# Altium footprint library Capacitor_THT.PcbLib: 378 footprints (part 14 of 24)
Each footprint in its own frame and in the unit in brackets; x right, y up, seen from the top. Pads: shape width x height; smd on the part's side, far side on the other; paste and mask are expansions set on the pad; w line width, h text height; cw(c..) or ccw(c..) is an arc to the next point about the centre after c.
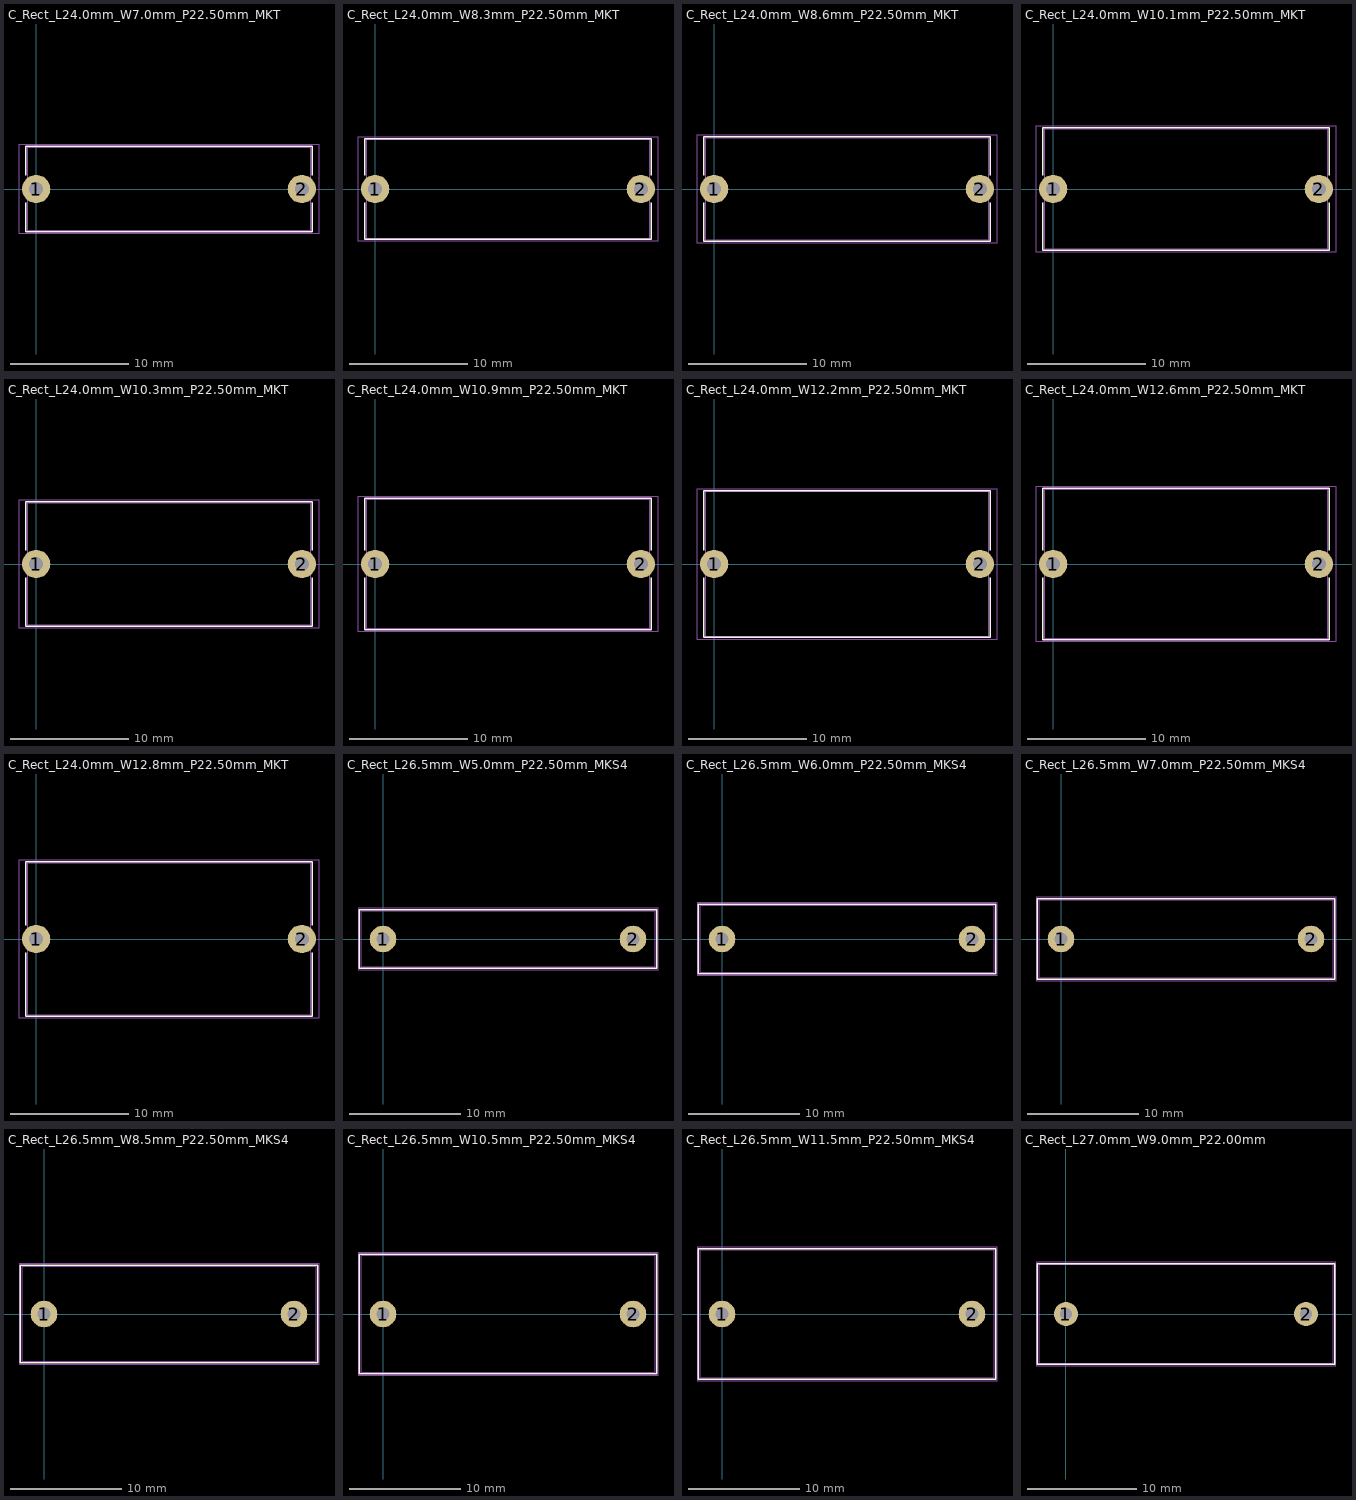
[diagram p13: the footprints below, top view; thin cyan lines are the x and y axes]

## C_Rect_L24.0mm_W7.0mm_P22.50mm_MKT [mm]
pads (2):
  round 2.4 hole 1.2: 1(0,0) 2(22.5,0)
F.SilkS:
  lines w0.12: -0.87,-1.185 -0.87,-3.62 23.37,-3.62 23.37,-1.185 ; -0.87,1.185 -0.87,3.62 23.37,3.62 23.37,1.185
F.CrtYd:
  lines w0.05: -1.45,-3.75 -1.45,3.75 23.95,3.75 23.95,-3.75 -1.45,-3.75
F.Fab:
  lines w0.1: -0.75,-3.5 23.25,-3.5 23.25,3.5 -0.75,3.5 -0.75,-3.5
  text "'.Designator'" at 7.203,-0.84 h1

## C_Rect_L24.0mm_W8.3mm_P22.50mm_MKT [mm]
pads (2):
  round 2.4 hole 1.2: 1(0,0) 2(22.5,0)
F.SilkS:
  lines w0.12: -0.87,-1.185 -0.87,-4.27 23.37,-4.27 23.37,-1.185 ; -0.87,1.185 -0.87,4.27 23.37,4.27 23.37,1.185
F.CrtYd:
  lines w0.05: -1.45,-4.4 23.95,-4.4 23.95,4.4 -1.45,4.4 -1.45,-4.4
F.Fab:
  lines w0.1: -0.75,-4.15 -0.75,4.15 23.25,4.15 23.25,-4.15 -0.75,-4.15
  text "'.Designator'" at 7.203,-0.84 h1

## C_Rect_L24.0mm_W8.6mm_P22.50mm_MKT [mm]
pads (2):
  round 2.4 hole 1.2: 1(0,0) 2(22.5,0)
F.SilkS:
  lines w0.12: -0.87,-1.185 -0.87,-4.42 23.37,-4.42 23.37,-1.185 ; -0.87,1.185 -0.87,4.42 23.37,4.42 23.37,1.185
F.CrtYd:
  lines w0.05: -1.45,-4.55 23.95,-4.55 23.95,4.55 -1.45,4.55 -1.45,-4.55
F.Fab:
  lines w0.1: -0.75,-4.3 -0.75,4.3 23.25,4.3 23.25,-4.3 -0.75,-4.3
  text "'.Designator'" at 7.203,-0.84 h1

## C_Rect_L24.0mm_W10.1mm_P22.50mm_MKT [mm]
pads (2):
  round 2.4 hole 1.2: 1(0,0) 2(22.5,0)
F.SilkS:
  lines w0.12: -0.87,-1.185 -0.87,-5.17 23.37,-5.17 23.37,-1.185 ; -0.87,1.185 -0.87,5.17 23.37,5.17 23.37,1.185
F.CrtYd:
  lines w0.05: -1.45,-5.3 -1.45,5.3 23.95,5.3 23.95,-5.3 -1.45,-5.3
F.Fab:
  lines w0.1: -0.75,-5.05 -0.75,5.05 23.25,5.05 23.25,-5.05 -0.75,-5.05
  text "'.Designator'" at 7.203,-0.84 h1

## C_Rect_L24.0mm_W10.3mm_P22.50mm_MKT [mm]
pads (2):
  round 2.4 hole 1.2: 1(0,0) 2(22.5,0)
F.SilkS:
  lines w0.12: -0.87,-1.185 -0.87,-5.27 23.37,-5.27 23.37,-1.185 ; -0.87,1.185 -0.87,5.27 23.37,5.27 23.37,1.185
F.CrtYd:
  lines w0.05: -1.45,-5.4 23.95,-5.4 23.95,5.4 -1.45,5.4 -1.45,-5.4
F.Fab:
  lines w0.1: -0.75,-5.15 -0.75,5.15 23.25,5.15 23.25,-5.15 -0.75,-5.15
  text "'.Designator'" at 7.203,-0.84 h1

## C_Rect_L24.0mm_W10.9mm_P22.50mm_MKT [mm]
pads (2):
  round 2.4 hole 1.2: 1(0,0) 2(22.5,0)
F.SilkS:
  lines w0.12: -0.87,-1.185 -0.87,-5.57 23.37,-5.57 23.37,-1.185 ; -0.87,1.185 -0.87,5.57 23.37,5.57 23.37,1.185
F.CrtYd:
  lines w0.05: -1.45,-5.7 23.95,-5.7 23.95,5.7 -1.45,5.7 -1.45,-5.7
F.Fab:
  lines w0.1: -0.75,-5.45 -0.75,5.45 23.25,5.45 23.25,-5.45 -0.75,-5.45
  text "'.Designator'" at 7.203,-0.84 h1

## C_Rect_L24.0mm_W12.2mm_P22.50mm_MKT [mm]
pads (2):
  round 2.4 hole 1.2: 1(0,0) 2(22.5,0)
F.SilkS:
  lines w0.12: -0.87,-1.185 -0.87,-6.22 23.37,-6.22 23.37,-1.185 ; -0.87,1.185 -0.87,6.22 23.37,6.22 23.37,1.185
F.CrtYd:
  lines w0.05: -1.45,-6.35 -1.45,6.35 23.95,6.35 23.95,-6.35 -1.45,-6.35
F.Fab:
  lines w0.1: -0.75,-6.1 -0.75,6.1 23.25,6.1 23.25,-6.1 -0.75,-6.1
  text "'.Designator'" at 7.203,-0.84 h1

## C_Rect_L24.0mm_W12.6mm_P22.50mm_MKT [mm]
pads (2):
  round 2.4 hole 1.2: 1(0,0) 2(22.5,0)
F.SilkS:
  lines w0.12: -0.87,-1.185 -0.87,-6.42 23.37,-6.42 23.37,-1.185 ; -0.87,1.185 -0.87,6.42 23.37,6.42 23.37,1.185
F.CrtYd:
  lines w0.05: -1.45,-6.55 23.95,-6.55 23.95,6.55 -1.45,6.55 -1.45,-6.55
F.Fab:
  lines w0.1: -0.75,-6.3 -0.75,6.3 23.25,6.3 23.25,-6.3 -0.75,-6.3
  text "'.Designator'" at 7.203,-0.84 h1

## C_Rect_L24.0mm_W12.8mm_P22.50mm_MKT [mm]
pads (2):
  round 2.4 hole 1.2: 1(0,0) 2(22.5,0)
F.SilkS:
  lines w0.12: -0.87,-1.185 -0.87,-6.52 23.37,-6.52 23.37,-1.185 ; -0.87,1.185 -0.87,6.52 23.37,6.52 23.37,1.185
F.CrtYd:
  lines w0.05: -1.45,-6.65 23.95,-6.65 23.95,6.65 -1.45,6.65 -1.45,-6.65
F.Fab:
  lines w0.1: -0.75,-6.4 23.25,-6.4 23.25,6.4 -0.75,6.4 -0.75,-6.4
  text "'.Designator'" at 7.203,-0.84 h1

## C_Rect_L26.5mm_W5.0mm_P22.50mm_MKS4 [mm]
pads (2):
  round 2.4 hole 1.2: 1(0,0) 2(22.5,0)
F.SilkS:
  lines w0.12: -2.12,-2.62 24.62,-2.62 24.62,2.62 -2.12,2.62 -2.12,-2.62
F.CrtYd:
  lines w0.05: -2.25,-2.75 24.75,-2.75 24.75,2.75 -2.25,2.75 -2.25,-2.75
F.Fab:
  lines w0.1: -2,-2.5 24.5,-2.5 24.5,2.5 -2,2.5 -2,-2.5
  text "'.Designator'" at 7.203,-0.84 h1

## C_Rect_L26.5mm_W6.0mm_P22.50mm_MKS4 [mm]
pads (2):
  round 2.4 hole 1.2: 1(0,0) 2(22.5,0)
F.SilkS:
  lines w0.12: -2.12,-3.12 24.62,-3.12 24.62,3.12 -2.12,3.12 -2.12,-3.12
F.CrtYd:
  lines w0.05: -2.25,-3.25 -2.25,3.25 24.75,3.25 24.75,-3.25 -2.25,-3.25
F.Fab:
  lines w0.1: -2,-3 24.5,-3 24.5,3 -2,3 -2,-3
  text "'.Designator'" at 7.203,-0.84 h1

## C_Rect_L26.5mm_W7.0mm_P22.50mm_MKS4 [mm]
pads (2):
  round 2.4 hole 1.2: 1(0,0) 2(22.5,0)
F.SilkS:
  lines w0.12: -2.12,-3.62 24.62,-3.62 24.62,3.62 -2.12,3.62 -2.12,-3.62
F.CrtYd:
  lines w0.05: -2.25,-3.75 -2.25,3.75 24.75,3.75 24.75,-3.75 -2.25,-3.75
F.Fab:
  lines w0.1: -2,-3.5 24.5,-3.5 24.5,3.5 -2,3.5 -2,-3.5
  text "'.Designator'" at 7.203,-0.84 h1

## C_Rect_L26.5mm_W8.5mm_P22.50mm_MKS4 [mm]
pads (2):
  round 2.4 hole 1.2: 1(0,0) 2(22.5,0)
F.SilkS:
  lines w0.12: -2.12,-4.37 -2.12,4.37 24.62,4.37 24.62,-4.37 -2.12,-4.37
F.CrtYd:
  lines w0.05: -2.25,-4.5 24.75,-4.5 24.75,4.5 -2.25,4.5 -2.25,-4.5
F.Fab:
  lines w0.1: -2,-4.25 -2,4.25 24.5,4.25 24.5,-4.25 -2,-4.25
  text "'.Designator'" at 7.203,-0.84 h1

## C_Rect_L26.5mm_W10.5mm_P22.50mm_MKS4 [mm]
pads (2):
  round 2.4 hole 1.2: 1(0,0) 2(22.5,0)
F.SilkS:
  lines w0.12: -2.12,-5.37 24.62,-5.37 24.62,5.37 -2.12,5.37 -2.12,-5.37
F.CrtYd:
  lines w0.05: -2.25,-5.5 -2.25,5.5 24.75,5.5 24.75,-5.5 -2.25,-5.5
F.Fab:
  lines w0.1: -2,-5.25 -2,5.25 24.5,5.25 24.5,-5.25 -2,-5.25
  text "'.Designator'" at 7.203,-0.84 h1

## C_Rect_L26.5mm_W11.5mm_P22.50mm_MKS4 [mm]
pads (2):
  round 2.4 hole 1.2: 1(0,0) 2(22.5,0)
F.SilkS:
  lines w0.12: -2.12,-5.87 -2.12,5.87 24.62,5.87 24.62,-5.87 -2.12,-5.87
F.CrtYd:
  lines w0.05: -2.25,-6 -2.25,6 24.75,6 24.75,-6 -2.25,-6
F.Fab:
  lines w0.1: -2,-5.75 24.5,-5.75 24.5,5.75 -2,5.75 -2,-5.75
  text "'.Designator'" at 7.203,-0.84 h1

## C_Rect_L27.0mm_W9.0mm_P22.00mm [mm]
pads (2):
  round 2.2 hole 1.1: 1(0,0) 2(22,0)
F.SilkS:
  lines w0.12: -2.62,-4.62 -2.62,4.62 24.62,4.62 24.62,-4.62 -2.62,-4.62
F.CrtYd:
  lines w0.05: -2.75,-4.75 -2.75,4.75 24.75,4.75 24.75,-4.75 -2.75,-4.75
F.Fab:
  lines w0.1: -2.5,-4.5 24.5,-4.5 24.5,4.5 -2.5,4.5 -2.5,-4.5
  text "'.Designator'" at 6.953,-0.84 h1